# Altium footprint library 主控板器件PCB封装库.PcbLib: 18 footprints (part 1 of 2)
Each footprint in its own frame and in the unit in brackets; x right, y up, seen from the top. Pads: shape width x height; smd on the part's side, far side on the other; paste and mask are expansions set on the pad; w line width, h text height; cw(c..) or ccw(c..) is an arc to the next point about the centre after c.
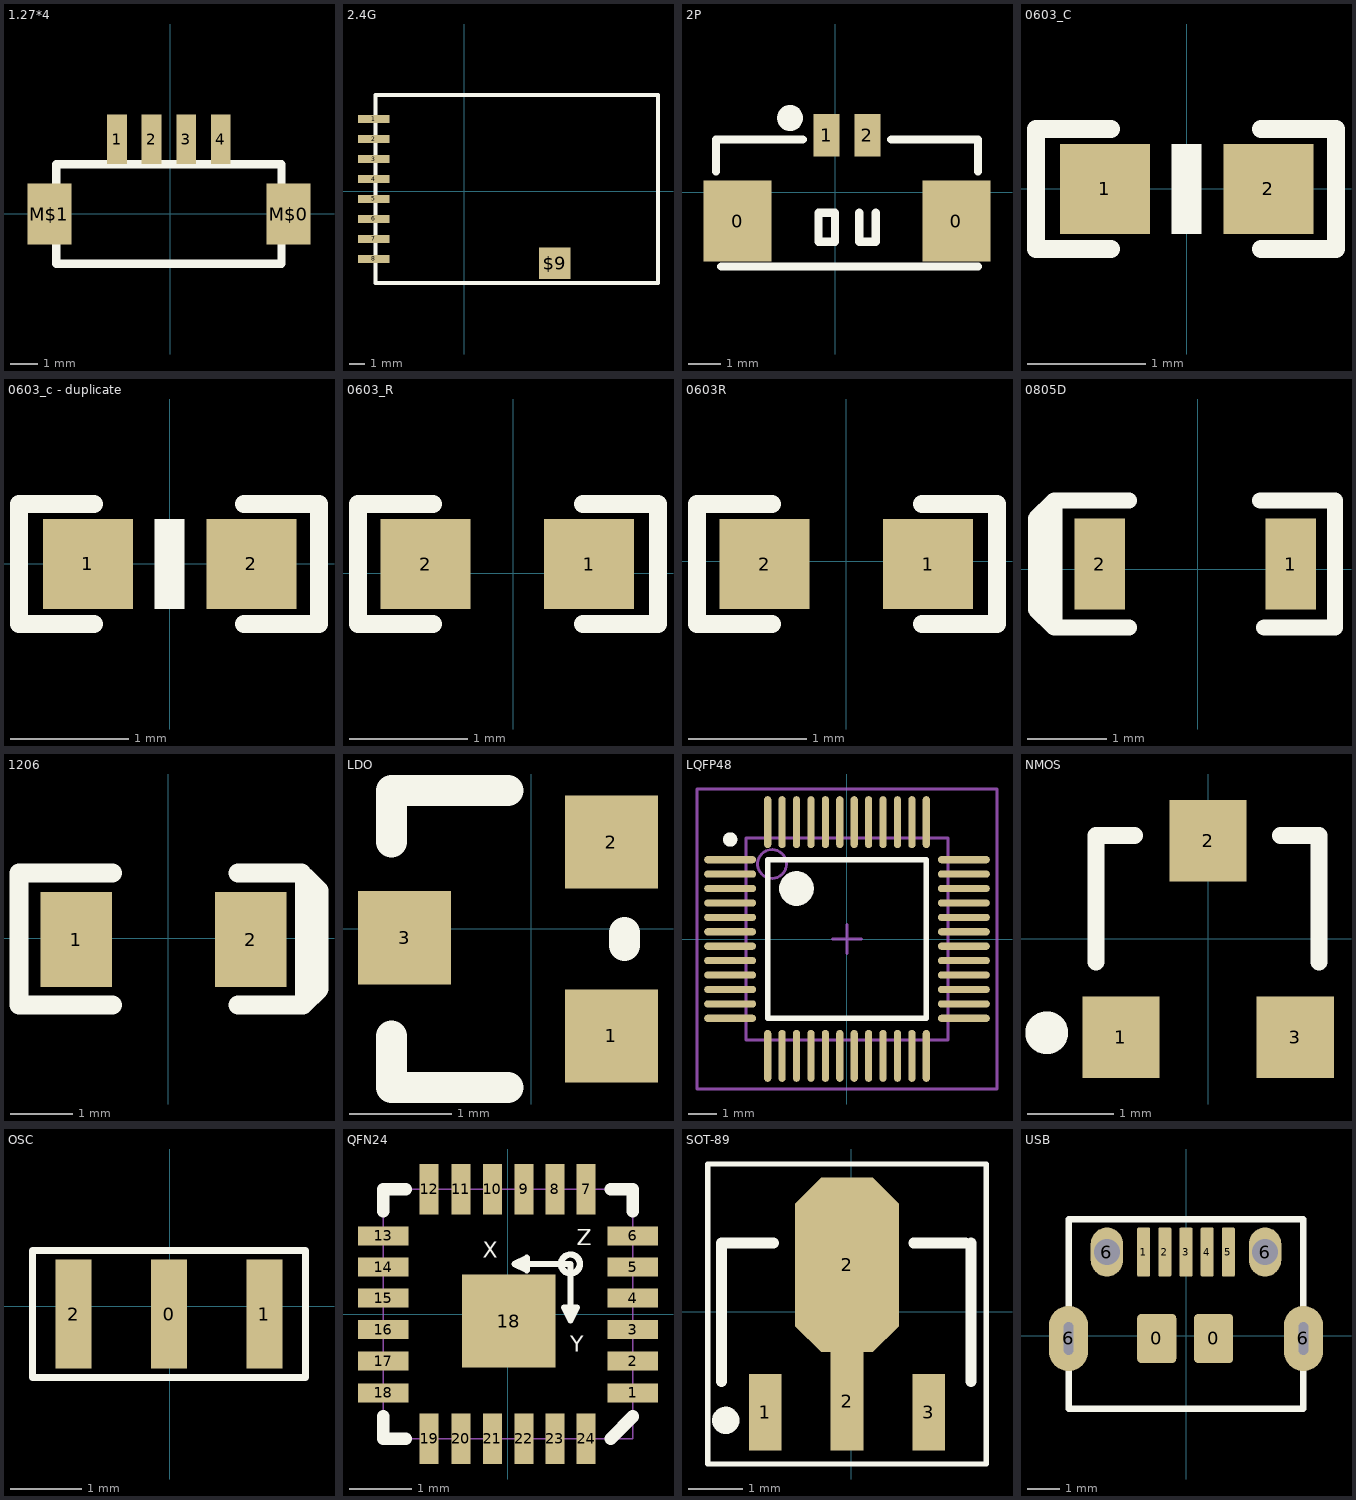
[diagram p0: the footprints below, top view; thin cyan lines are the x and y axes]

## 1.27*4 [mil]
pads (6):
  rect 28x71 smd: 1(-75.95,106.71) 2(-26.74,106.71) 3(22.87,106.71) 4(71.87,106.71)
  rect 63x87 smd: M$0(168.87,-0.15) M$1(-172.41,-0.15)
Top Overlay:
  lines w12: -162.56,-71.02 158.87,-71.02 158.87,70.71 -162.56,70.71 -162.56,-71.02
  text "." at -138.94,131.71 h155
3D body: height 133.86, standoff 0, extent -203.15,-75.75 196.45,128.58

## 2.4G [mm]
pads (9):
  rect 2x0.5 smd: 1(-5.754,4.577) 2(-5.754,3.307) 3(-5.754,2.037) 4(-5.754,0.767) 5(-5.754,-0.503) 6(-5.754,-1.773) 7(-5.754,-3.043) 8(-5.754,-4.313)
  rect 2x2 smd: $9(5.754,-4.576)
Top Overlay:
  lines w0.254: -5.627,-5.837 12.319,-5.837 12.319,6.101 -5.627,6.101 -5.627,-5.837
3D body: height 0.8, standoff 0, extent -5.803,-5.821 12.197,6.179

## 2P [mm]
pads (4):
  rect 2.1x2.5 smd: 0(-3.001,-0.889) 0(3.735,-0.889)
  rect 0.8x1.3 smd: 1(-0.258,1.753) 2(0.992,1.753)
Top Overlay:
  circle w0.4: c-1.386,2.286 r0.2
  lines w0.254: -3.664,0.635 -3.664,1.626 -0.997,1.626 ; -3.506,-2.286 4.401,-2.286 ; 0.741,-0.635 0.741,-1.524 1.249,-1.524 1.249,-0.635 ; 1.731,1.626 4.398,1.626 4.398,0.635 ; -0.509,-1.524 -0.001,-1.524 -0.001,-0.635 -0.509,-0.635 -0.509,-1.524
3D body: height 4.7, standoff 0, extent -3.408,-2.202 4.242,1.898

## 0603_C [mil]
pads (2):
  rect 30x30 smd: 1(-27.25,0.03) 2(27.25,-0.03)
Top Overlay:
  region: 4.9,-15 4.9,15 -5.1,15 -5.1,-15
  lines w6: -25.25,-20.03 -50.25,-20.03 -50.25,19.97 -25.25,19.97 ; 24.75,-20.03 49.75,-20.03 49.75,19.97 24.75,19.97
3D body: height 11.89, standoff 0, extent -30.74,-14.6 32.25,16.9

## 0603_c - duplicate [mil]
pads (2):
  rect 30x30 smd: 1(-27.25,0.03) 2(27.25,-0.03)
Top Overlay:
  region: 4.9,-15 4.9,15 -5.1,15 -5.1,-15
  lines w6: -25.25,-20.03 -50.25,-20.03 -50.25,19.97 -25.25,19.97 ; 24.75,-20.03 49.75,-20.03 49.75,19.97 24.75,19.97
3D body: height 11.89, standoff 0, extent -30.74,-14.6 32.25,16.9

## 0603_R [mil]
pads (2):
  rect 30x30 smd: 1(25.25,2.97) 2(-29.25,3.03)
Top Overlay:
  lines w6: -26.75,-16.97 -51.75,-16.97 -51.75,23.03 -26.75,23.03 ; 23.25,-16.97 48.25,-16.97 48.25,23.03 23.25,23.03
3D body: height 17.72, standoff 0, extent -29.99,-15 33,17.29

## 0603R [mil]
pads (2):
  rect 30x30 smd: 1(27.25,-1.03) 2(-27.25,-0.97)
Top Overlay:
  lines w6: -24.75,-20.97 -49.75,-20.97 -49.75,19.03 -24.75,19.03 ; 25.25,-20.97 50.25,-20.97 50.25,19.03 25.25,19.03
3D body: height 17.72, standoff 0, extent -27.99,-19 35,13.29

## 0805D [mil]
pads (2):
  rect 25x45 smd: 1(45.98,2.46) 2(-48.4,2.46)
Top Overlay:
  lines w8: -76,-21 -76,24 ; -34,-29 -71,-29 ; -34,34 -71,34 ; 31,34 68,34 68,-29 33,-29 ; -71,-29 -80,-20 -80,25 -71,34 ; -71,-29 -71,34
3D body: height 35.43, standoff -3.54, extent -50.21,-22 48.21,27.21

## 1206 [mil]
pads (2):
  rect 45x60 smd: 1(-58,-0.81) 2(52,-0.81)
Top Overlay:
  lines w12: -35,-42 -94,-42 -94,41 -35,41 ; 44,-42 85,-42 95,-32 95,30 86,39 86,-41 ; 44,41 84,41
3D body: height 70.87, standoff 0, extent -69.93,-34.37 63.93,36.5

## LDO [mil]
pads (3):
  rect 36x36 smd: 1(31,-41.5) 2(31,33.5) 3(-49,-3.5)
Top Overlay:
  lines w12: -54,-41.5 -54,-61.5 -9,-61.5 ; -54,33.5 -54,53.5 -9,53.5 ; 36,-6.5 36,-1.5
3D body: height 39.37, standoff -0.79, extent -53.86,-60.99 43.62,53.97

## LQFP48 [mm]
pads (48):
  oval 1.8x0.25 smd: 1(-4.05,2.75) 2(-4.05,2.25) 3(-4.05,1.75) 4(-4.05,1.25) 5(-4.05,0.75) 6(-4.05,0.25) 7(-4.05,-0.25) 8(-4.05,-0.75) 9(-4.05,-1.25) 10(-4.05,-1.75) 11(-4.05,-2.25) 12(-4.05,-2.75) 25(4.05,-2.75) 26(4.05,-2.25) 27(4.05,-1.75) 28(4.05,-1.25) 29(4.05,-0.75) 30(4.05,-0.25) 31(4.05,0.25) 32(4.05,0.75) 33(4.05,1.25) 34(4.05,1.75) 35(4.05,2.25) 36(4.05,2.75)
  oval 0.25x1.8 smd: 13(-2.75,-4.05) 14(-2.25,-4.05) 15(-1.75,-4.05) 16(-1.25,-4.05) 17(-0.75,-4.05) 18(-0.25,-4.05) 19(0.25,-4.05) 20(0.75,-4.05) 21(1.25,-4.05) 22(1.75,-4.05) 23(2.25,-4.05) 24(2.75,-4.05) 37(2.75,4.05) 38(2.25,4.05) 39(1.75,4.05) 40(1.25,4.05) 41(0.75,4.05) 42(0.25,4.05) 43(-0.25,4.05) 44(-0.75,4.05) 45(-1.25,4.05) 46(-1.75,4.05) 47(-2.25,4.05) 48(-2.75,4.05)
Top Overlay:
  circle w0.25: c-4.05,3.45 r0.125
  circle w0.6: c-1.75,1.75 r0.3
  lines w0.2: -2.75,-2.75 -2.75,2.75 2.75,2.75 2.75,-2.75 -2.75,-2.75
Mechanical 13:
  circle w0.1: c-2.6,2.6 r0.5
  lines w0.1: -3.5,-3.5 -3.5,3.5 3.5,3.5 3.5,-3.5 -3.5,-3.5
Mechanical 15:
  lines w0.1: -0.5,0 0.5,0 ; 0,-0.5 0,0.5 ; -5.2,-5.2 -5.2,5.2 5.2,5.2 5.2,-5.2 -5.2,-5.2
3D body: height 1.45, standoff 0, extent -4.489,-4.505 4.517,4.5

## NMOS [mm]
pads (3):
  rect 0.9x0.95 smd: 1(-1.016,-1.143) 2(0,1.143) 3(1.016,-1.143)
Top Overlay:
  circle w0.25: c-1.882,-1.093 r0.125
  lines w0.2: -1.307,-0.268 -1.307,1.207 -0.857,1.207 ; 0.843,1.207 1.293,1.207 1.293,-0.268
3D body: height 1, standoff -0.02, extent -1.435,-1.251 1.485,1.225

## OSC [mm]
pads (3):
  rect 0.5x1.524 smd: 0(-0.014,-0.108) 1(1.32,-0.108) 2(-1.347,-0.108)
Top Overlay:
  lines w0.1: -1.919,-0.997 1.129,-0.997 1.891,-0.997 1.891,0.781 -1.919,0.781 -1.919,-0.997
3D body: height 0.7, standoff 0, extent -1.618,-0.736 1.582,0.564

## QFN24 [mil]
pads (25):
  rect 32x12 smd: 1(78.87,-49.87) 2(78.87,-29.87) 3(78.87,-9.87) 4(78.87,9.97) 5(78.87,29.66) 6(78.87,49.34) 13(-78.87,49.34) 14(-78.87,29.66) 15(-78.87,9.97) 16(-78.87,-9.87) 17(-78.87,-29.87) 18(-78.87,-49.87)
  rect 12x32 smd: 7(49.34,78.87) 8(29.66,78.87) 9(9.97,78.87) 10(-9.87,78.87) 11(-29.87,78.87) 12(-49.87,78.87) 19(-49.87,-78.87) 20(-29.87,-78.87) 21(-9.87,-78.87) 22(9.97,-78.87) 23(29.66,-78.87) 24(49.34,-78.87)
  rect 59.06x59.06 smd: 18(0.37,-4.44)
Top Overlay:
  circle w4: c39.5,31.63 r6
  lines w4: 4.07,31.63 39.5,31.63 39.5,-3.87 ; 4.07,31.63 11.94,35.56 11.94,27.69 4.07,31.63 ; 39.5,-3.87 43.44,4.07 35.56,4.07 39.5,-3.87
  lines w8: -78.87,-64.87 -78.87,-78.87 -64.87,-78.87 ; -78.87,65.09 -78.87,78.87 -64.87,78.87 ; 65.09,-78.87 78.87,-64.87 ; 65.09,78.87 78.87,78.87 78.87,65.09
  text "X" at -15.87,35.56 h10.2
  text "Y" at 39.5,-23.87 h10.2
  text "Z" at 43.44,43.44 h10.2
Mechanical 4:
Mechanical 16:
  lines w1: -78.87,-78.87 78.87,-78.87 78.87,78.87 -78.87,78.87 -78.87,-78.87
3D body: height 38.4, standoff -0.97, extent -79.89,-78.13 78.38,80.14

## SOT-89 [mm]
pads (4):
  rect 0.6x1.4 smd: 1(-1.579,-1.842) 3(1.421,-1.842)
  rect 0.6x1.8 smd: 2(-0.079,-1.642)
  oct 1.9x3.2 smd: 2(-0.079,0.858)
Top Overlay:
  circle w0.25: c-2.302,-1.992 r0.125
  lines w0.1: -2.629,-2.792 2.471,-2.792 2.471,2.708 -2.629,2.708 -2.629,-2.792
  lines w0.2: -2.379,-1.278 -2.379,1.258 -1.429,1.258 ; 1.144,1.258 2.094,1.258 ; 2.193,-1.278 2.193,1.258
3D body: height 1.51, standoff 0, extent -2.311,-2.125 2.189,2.175

## USB [mm]
pads (11):
  rrect20% 1.2x1.5 smd: 0(-0.898,-0.08) 0(0.848,-0.08)
  rrect20% 0.4x1.5 smd: 1(-1.3,2.57) 2(-0.65,2.57) 3(0,2.57) 4(0.65,2.57) 5(1.3,2.57)
  oval 1.2x2 hole 0.3 slot 1 at 90 deg: 6(-3.6,-0.08) 6(3.6,-0.08)
  oval 1x1.5 hole 0.8: 6(-2.425,2.57) 6(2.425,2.57)
Top Overlay:
  lines w0.2: -3.6,-2.23 3.6,-2.23 3.6,3.57 -3.6,3.57 -3.6,-2.23
3D body: height 2.8, standoff -0.95, extent -4.001,-2.819 4.001,2.781